# EAGLE library part PIZERO (library citysensor)
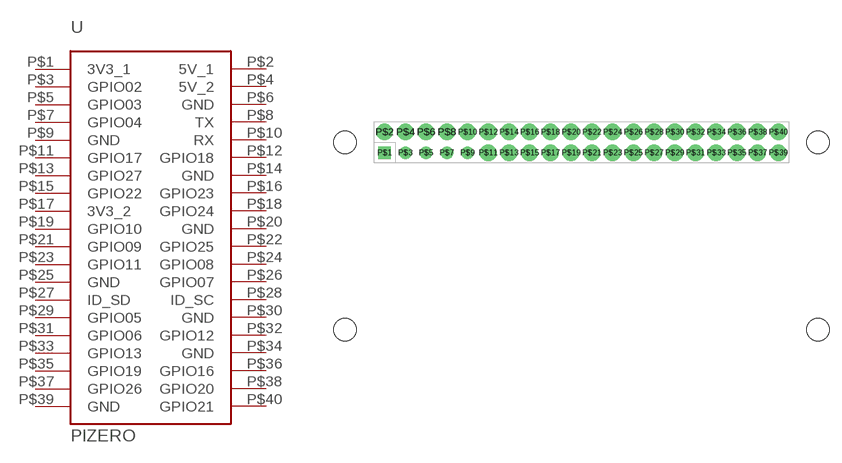
[diagram p0: symbol with the pads of PIZERO; footprint PIZERO]

Designator prefix -

## PIZERO  [PIZERO]
P$1  3V3_1  pwr
P$2  5V_1  pwr
P$3  GPIO02
P$4  5V_2  pwr
P$5  GPIO03
P$6  GND  pwr
P$7  GPIO04
P$8  TX
P$9  GND  pwr
P$10  RX
P$11  GPIO17
P$12  GPIO18
P$13  GPIO27
P$14  GND  pwr
P$15  GPIO22
P$16  GPIO23
P$17  3V3_2  pwr
P$18  GPIO24
P$19  GPIO10
P$20  GND  pwr
P$21  GPIO09
P$22  GPIO25
P$23  GPIO11
P$24  GPIO08
P$25  GND  pwr
P$26  GPIO07
P$27  ID_SD
P$28  ID_SC
P$29  GPIO05
P$30  GND  pwr
P$31  GPIO06
P$32  GPIO12
P$33  GPIO13
P$34  GND  pwr
P$35  GPIO19
P$36  GPIO16
P$37  GPIO26
P$38  GPIO20
P$39  GND  pwr
P$40  GPIO21

## Footprint PIZERO (pad centres in mm)
drill 1.016 pad 1.524 square: P$1 -24.13,-1.27
drill 1.016 pad 2.032: P$2 -24.13,1.27; P$4 -21.59,1.27; P$6 -19.05,1.27; P$8 -16.51,1.27; P$10 -13.97,1.27; P$11 -11.43,-1.27; P$12 -11.43,1.27; P$13 -8.89,-1.27; P$14 -8.89,1.27; P$15 -6.35,-1.27; P$16 -6.35,1.27; P$17 -3.81,-1.27; P$18 -3.81,1.27; P$19 -1.27,-1.27; P$20 -1.27,1.27; P$21 1.27,-1.27; P$22 1.27,1.27; P$23 3.81,-1.27; P$24 3.81,1.27; P$25 6.35,-1.27; P$26 6.35,1.27; P$27 8.89,-1.27; P$28 8.89,1.27; P$29 11.43,-1.27; P$30 11.43,1.27; P$31 13.97,-1.27; P$32 13.97,1.27; P$33 16.51,-1.27; P$34 16.51,1.27; P$35 19.05,-1.27; P$36 19.05,1.27; P$37 21.59,-1.27; P$38 21.59,1.27; P$39 24.13,-1.27; P$40 24.13,1.27
drill 1.016 pad 1.524: P$3 -21.59,-1.27; P$5 -19.05,-1.27; P$7 -16.51,-1.27; P$9 -13.97,-1.27
hole 2.75 at -29,0
hole 2.75 at 29,0
hole 2.75 at -29,-23
hole 2.75 at 29,-23